# Altium schematic symbol library 74HC74D_653.SchLib: 1 symbol
Pins are listed as number, name and electrical type; pins without a type are passive.

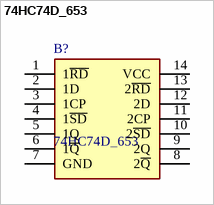
[diagram p0: symbol 74HC74D_653]

## 74HC74D_653
designator B?
Dual D-type flip-flop; Manufacturer_Name: Nexperia; Manufacturer_Part_Number: 74HC74D,653; Geometry.Height: 1.75mm; Mouser Part Number: 771-74HC74D-T; Mouser Price/Stock: https://www.mouser.co.uk/ProductDetail/Nexperia/74HC74D653?qs=P62ublwmbi8VnJ1KG1%2FblQ%3D%3D; Datasheet Link: https://assets.nexperia.com/documents/data-sheet/74HC_HCT74.pdf
footprint SOIC127P600X175-14N
pins: 1 1~{RD}, 2 1D, 3 1CP, 4 1~{SD}, 5 1Q, 6 1~{Q}, 7 GND, 8 2~{Q}, 9 2Q, 10 2~{SD}, 11 2CP, 12 2D, 13 2~{RD}, 14 VCC